# Altium integrated library SN74LV07ADR.IntLib: 1 symbol
Pins are listed as number, name and electrical type; pins without a type are passive.

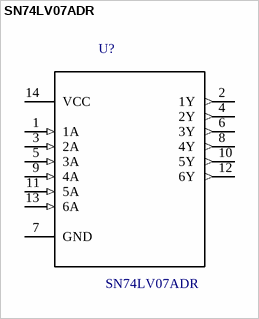
[diagram p0: symbol SN74LV07ADR]

## SN74LV07ADR
designator U?
Buffer/Driver 6-CH Non-Inverting Open Drain CMOS 14-Pin SOIC T/R; MF: Texas Instruments; SnapEDA_Link: https://www.snapeda.com/parts/SN74LV07ADR/Texas%2520Instruments/view-part/?ref=snap; Package: SOIC-14 Texas Instruments; MP: SN74LV07ADR; Availability: Good; Price: 0.17 USD; Value: *
footprint SOIC127P600X175-14N
pins: 1 1A (in), 2 1Y (out), 3 2A (in), 4 2Y (out), 5 3A (in), 6 3Y (out), 7 GND, 8 4Y (out), 9 4A (in), 10 5Y (out), 11 5A (in), 12 6Y (out), 13 6A (in), 14 VCC (power)